# Altium integrated library LTC2954.IntLib: 1 symbol
Pins are listed as number, name and electrical type; pins without a type are passive.

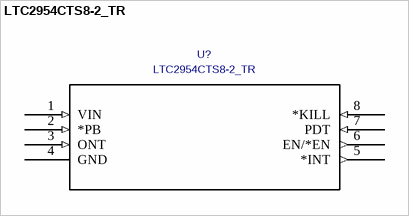
[diagram p0: symbol LTC2954CTS8-2_TR]

## LTC2954CTS8-2_TR
designator U?
Manufacturer_Part_Number: LTC2954CTS8-2#TRMPBF; Vendor: Linear Technology; Built_By: EMA_UL_Team; Value: LTC2954CTS8-2_TR
footprint TSOT-23_TS8
pins: 1 VIN (in), 2 *PB (in), 3 ONT (in), 4 GND (power), 5 *INT (out), 6 EN/*EN (out), 7 PDT (in), 8 *KILL (in)